# Altium integrated library FPGA Generic.IntLib: 1651 symbols (part 18 of 20)
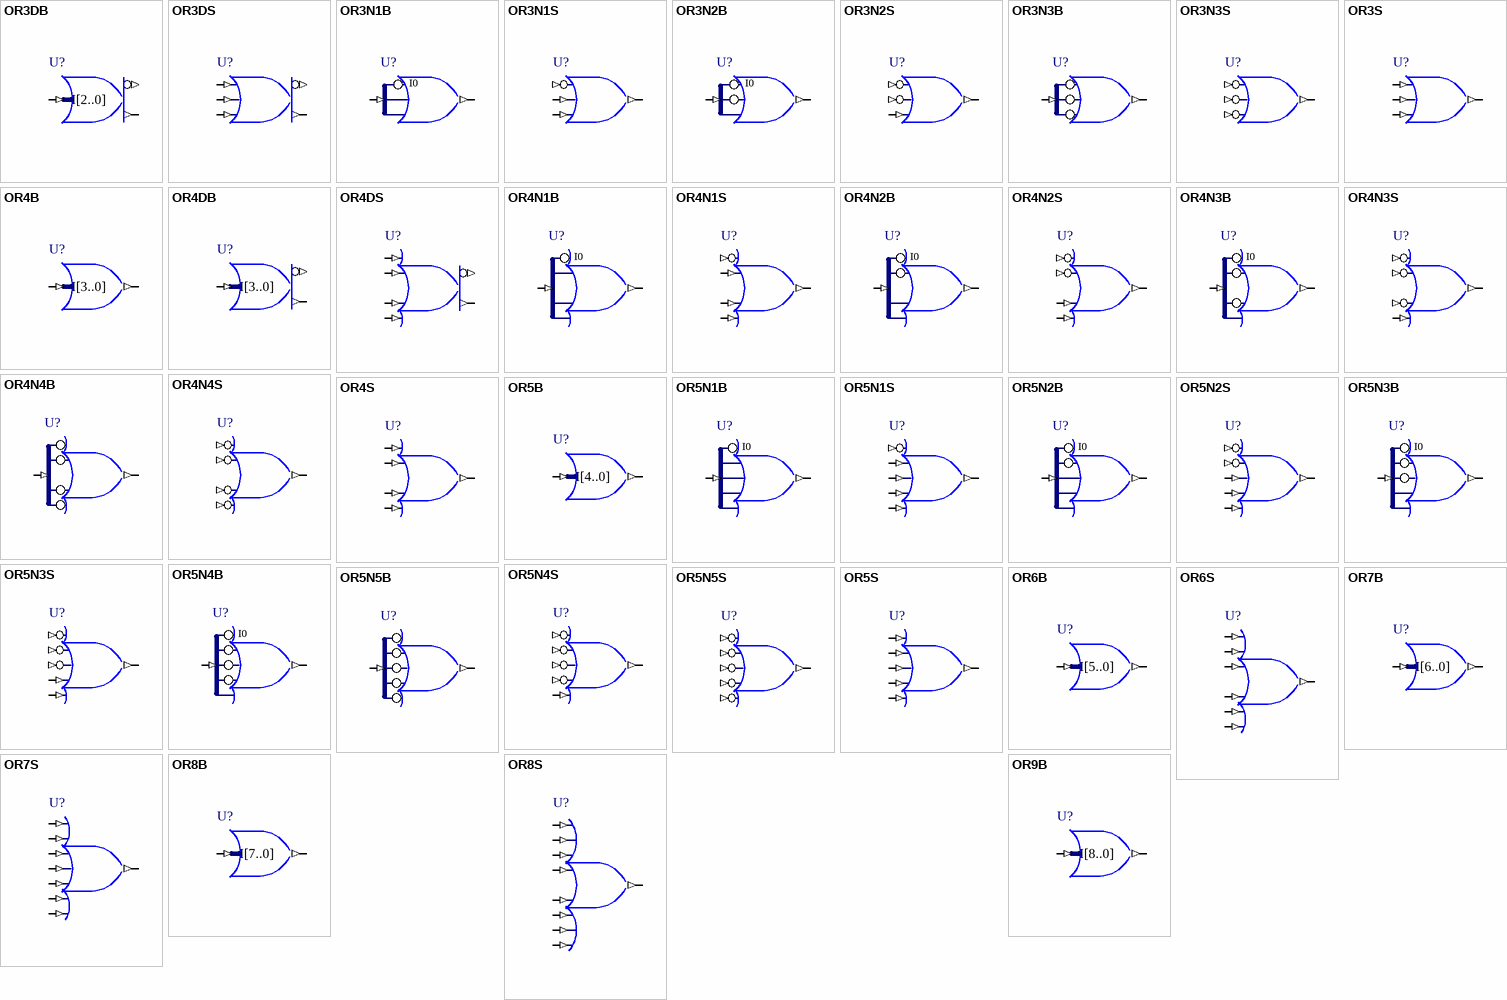
[diagram p60: symbols OR3DB to OR9B]

## OR3S
designator U?
3-Input OR Gate, Single Pin Version; XilinxEquivalent: OR3; FunctionalClass: Logic Primitive; PortSize: 3; ArchiveName: GENERIC; VHDLIB_SIM: GENERIC_LIB; Published: 29-Jan-2004; Publisher: Altium Limited; LastRevisionNo: 1.00.00; HelpURL: CR0118 FPGA Generic Library Guide.pdf#page=410; ComponentLink1URL: CR0136 FPGA Logic Primitive Resource Usage.pdf#page=200; ComponentLink1Description: Core &Resource Usage; SubClass: OR; PortStyle: Single Pin Version
pins: I0 (in), I1 (in), I2 (in), O (out)

## OR4B
designator U?
4-Input OR Gate, Bus Version; FunctionalClass: Logic Primitive; PortSize: 4; ArchiveName: GENERIC; VHDLIB_SIM: GENERIC_LIB; Published: 29-Jan-2004; Publisher: Altium Limited; LastRevisionNo: 1.00.00; HelpURL: CR0118 FPGA Generic Library Guide.pdf#page=410; ComponentLink1URL: CR0136 FPGA Logic Primitive Resource Usage.pdf#page=201; ComponentLink1Description: Core &Resource Usage; SubClass: OR; PortStyle: Bus Version
pins: I[3..0] (in), O (out)

## OR4DB
designator U?
4-Input OR/NOR Gate, Bus Version; FunctionalClass: Logic Primitive; SubClass: OR; PortSize: 4; ArchiveName: GENERIC; VHDLIB_SIM: GENERIC_LIB; Published: 29-Jan-2004; Publisher: Altium Limited; LastRevisionNo: 1.00.00; HelpURL: CR0118 FPGA Generic Library Guide.pdf#page=410; ComponentLink1URL: CR0136 FPGA Logic Primitive Resource Usage.pdf#page=202; ComponentLink1Description: Core &Resource Usage; PortStyle: Bus Version
pins: I[3..0] (in), Y (out), YN (out)

## OR4DS
designator U?
4-Input OR/NOR Gate, Single Pin Version; FunctionalClass: Logic Primitive; SubClass: OR; PortSize: 4; ArchiveName: GENERIC; VHDLIB_SIM: GENERIC_LIB; Published: 29-Jan-2004; Publisher: Altium Limited; LastRevisionNo: 1.00.00; HelpURL: CR0118 FPGA Generic Library Guide.pdf#page=410; ComponentLink1URL: CR0136 FPGA Logic Primitive Resource Usage.pdf#page=203; ComponentLink1Description: Core &Resource Usage; PortStyle: Single Pin Version
pins: I0 (in), I1 (in), I2 (in), I3 (in), Y (out), YN (out)

## OR4N1B
designator U?
4-Input OR Gate with Active Low A Input, Bus Version; FunctionalClass: Logic Primitive; PortSize: 4; ArchiveName: GENERIC; VHDLIB_SIM: GENERIC_LIB; Published: 29-Jan-2004; Publisher: Altium Limited; LastRevisionNo: 1.00.00; HelpURL: CR0118 FPGA Generic Library Guide.pdf#page=410; ComponentLink1URL: CR0136 FPGA Logic Primitive Resource Usage.pdf#page=204; ComponentLink1Description: Core &Resource Usage; SubClass: OR; PortStyle: Bus Version
pins: I[3..0] (in), O (out)
text: I0

## OR4N1S
designator U?
4-Input OR Gate with Active Low A Input, Single Pin Version; XilinxEquivalent: OR4B1; FunctionalClass: Logic Primitive; PortSize: 4; ArchiveName: GENERIC; VHDLIB_SIM: GENERIC_LIB; Published: 29-Jan-2004; Publisher: Altium Limited; LastRevisionNo: 1.00.00; HelpURL: CR0118 FPGA Generic Library Guide.pdf#page=410; ComponentLink1URL: CR0136 FPGA Logic Primitive Resource Usage.pdf#page=205; ComponentLink1Description: Core &Resource Usage; SubClass: OR; PortStyle: Single Pin Version
pins: I0 (in), I1 (in), I2 (in), I3 (in), O (out)

## OR4N2B
designator U?
4-Input OR Gate with Active Low A and B Inputs, Bus Version; FunctionalClass: Logic Primitive; PortSize: 4; ArchiveName: GENERIC; VHDLIB_SIM: GENERIC_LIB; Published: 29-Jan-2004; Publisher: Altium Limited; LastRevisionNo: 1.00.00; HelpURL: CR0118 FPGA Generic Library Guide.pdf#page=410; ComponentLink1URL: CR0136 FPGA Logic Primitive Resource Usage.pdf#page=206; ComponentLink1Description: Core &Resource Usage; SubClass: OR; PortStyle: Bus Version
pins: I[3..0] (in), O (out)
text: I0

## OR4N2S
designator U?
4-Input OR Gate with Active Low A and B Inputs, Single Pin Version; XilinxEquivalent: OR4B2; FunctionalClass: Logic Primitive; PortSize: 4; ArchiveName: GENERIC; VHDLIB_SIM: GENERIC_LIB; Published: 29-Jan-2004; Publisher: Altium Limited; LastRevisionNo: 1.00.00; HelpURL: CR0118 FPGA Generic Library Guide.pdf#page=410; ComponentLink1URL: CR0136 FPGA Logic Primitive Resource Usage.pdf#page=207; ComponentLink1Description: Core &Resource Usage; SubClass: OR; PortStyle: Single Pin Version
pins: I0 (in), I1 (in), I2 (in), I3 (in), O (out)

## OR4N3B
designator U?
4-Input OR Gate with Active Low A, B and C Inputs, Bus Version; FunctionalClass: Logic Primitive; PortSize: 4; ArchiveName: GENERIC; VHDLIB_SIM: GENERIC_LIB; Published: 29-Jan-2004; Publisher: Altium Limited; LastRevisionNo: 1.00.00; HelpURL: CR0118 FPGA Generic Library Guide.pdf#page=410; ComponentLink1URL: CR0136 FPGA Logic Primitive Resource Usage.pdf#page=208; ComponentLink1Description: Core &Resource Usage; SubClass: OR; PortStyle: Bus Version
pins: I[3..0] (in), O (out)
text: I0

## OR4N3S
designator U?
4-Input OR Gate with Active Low A, B and C Inputs, Single Pin Version; XilinxEquivalent: OR4B3; FunctionalClass: Logic Primitive; PortSize: 4; ArchiveName: GENERIC; VHDLIB_SIM: GENERIC_LIB; Published: 29-Jan-2004; Publisher: Altium Limited; LastRevisionNo: 1.00.00; HelpURL: CR0118 FPGA Generic Library Guide.pdf#page=410; ComponentLink1URL: CR0136 FPGA Logic Primitive Resource Usage.pdf#page=209; ComponentLink1Description: Core &Resource Usage; SubClass: OR; PortStyle: Single Pin Version
pins: I0 (in), I1 (in), I2 (in), I3 (in), O (out)

## OR4N4B
designator U?
4-Input OR Gate with Active Low A, B, C and D Inputs, Bus Version; FunctionalClass: Logic Primitive; PortSize: 4; ArchiveName: GENERIC; VHDLIB_SIM: GENERIC_LIB; Published: 29-Jan-2004; Publisher: Altium Limited; LastRevisionNo: 1.00.00; HelpURL: CR0118 FPGA Generic Library Guide.pdf#page=410; ComponentLink1URL: CR0136 FPGA Logic Primitive Resource Usage.pdf#page=210; ComponentLink1Description: Core &Resource Usage; SubClass: OR; PortStyle: Bus Version
pins: I[3..0] (in), O (out)

## OR4N4S
designator U?
4-Input OR Gate with Active Low A, B, C and D Inputs, Single Pin Version; XilinxEquivalent: OR4B4; FunctionalClass: Logic Primitive; PortSize: 4; ArchiveName: GENERIC; VHDLIB_SIM: GENERIC_LIB; Published: 29-Jan-2004; Publisher: Altium Limited; LastRevisionNo: 1.00.00; HelpURL: CR0118 FPGA Generic Library Guide.pdf#page=410; ComponentLink1URL: CR0136 FPGA Logic Primitive Resource Usage.pdf#page=211; ComponentLink1Description: Core &Resource Usage; SubClass: OR; PortStyle: Single Pin Version
pins: I0 (in), I1 (in), I2 (in), I3 (in), O (out)

## OR4S
designator U?
4-Input OR Gate, Single Pin Version; XilinxEquivalent: OR4; FunctionalClass: Logic Primitive; PortSize: 4; ArchiveName: GENERIC; VHDLIB_SIM: GENERIC_LIB; Published: 29-Jan-2004; Publisher: Altium Limited; LastRevisionNo: 1.00.00; HelpURL: CR0118 FPGA Generic Library Guide.pdf#page=410; ComponentLink1URL: CR0136 FPGA Logic Primitive Resource Usage.pdf#page=212; ComponentLink1Description: Core &Resource Usage; SubClass: OR; PortStyle: Single Pin Version
pins: I0 (in), I1 (in), I2 (in), I3 (in), O (out)

## OR5B
designator U?
5-Input OR Gate, Bus Version; FunctionalClass: Logic Primitive; PortSize: 5; ArchiveName: GENERIC; VHDLIB_SIM: GENERIC_LIB; Published: 29-Jan-2004; Publisher: Altium Limited; LastRevisionNo: 1.00.00; HelpURL: CR0118 FPGA Generic Library Guide.pdf#page=410; ComponentLink1URL: CR0136 FPGA Logic Primitive Resource Usage.pdf#page=213; ComponentLink1Description: Core &Resource Usage; SubClass: OR; PortStyle: Bus Version
pins: I[4..0] (in), O (out)

## OR5N1B
designator U?
5-Input OR Gate with Active Low A Input, Bus Version; FunctionalClass: Logic Primitive; PortSize: 5; ArchiveName: GENERIC; VHDLIB_SIM: GENERIC_LIB; Published: 29-Jan-2004; Publisher: Altium Limited; LastRevisionNo: 1.00.00; HelpURL: CR0118 FPGA Generic Library Guide.pdf#page=410; ComponentLink1URL: CR0136 FPGA Logic Primitive Resource Usage.pdf#page=214; ComponentLink1Description: Core &Resource Usage; SubClass: OR; PortStyle: Bus Version
pins: I[4..0] (in), O (out)
text: I0

## OR5N1S
designator U?
5-Input OR Gate with Active Low A Input, Single Pin Version; XilinxEquivalent: OR5B1; FunctionalClass: Logic Primitive; PortSize: 5; ArchiveName: GENERIC; VHDLIB_SIM: GENERIC_LIB; Published: 29-Jan-2004; Publisher: Altium Limited; LastRevisionNo: 1.00.00; HelpURL: CR0118 FPGA Generic Library Guide.pdf#page=410; ComponentLink1URL: CR0136 FPGA Logic Primitive Resource Usage.pdf#page=215; ComponentLink1Description: Core &Resource Usage; SubClass: OR; PortStyle: Single Pin Version
pins: I0 (in), I1 (in), I2 (in), I3 (in), I4 (in), O (out)

## OR5N2B
designator U?
5-Input OR Gate with Active Low A and B Inputs, Bus Version; FunctionalClass: Logic Primitive; PortSize: 5; ArchiveName: GENERIC; VHDLIB_SIM: GENERIC_LIB; Published: 29-Jan-2004; Publisher: Altium Limited; LastRevisionNo: 1.00.00; HelpURL: CR0118 FPGA Generic Library Guide.pdf#page=410; ComponentLink1URL: CR0136 FPGA Logic Primitive Resource Usage.pdf#page=216; ComponentLink1Description: Core &Resource Usage; SubClass: OR; PortStyle: Bus Version
pins: I[4..0] (in), O (out)
text: I0

## OR5N2S
designator U?
5-Input OR Gate with Active Low A and B Inputs, Single Pin Version; XilinxEquivalent: OR5B2; FunctionalClass: Logic Primitive; PortSize: 5; ArchiveName: GENERIC; VHDLIB_SIM: GENERIC_LIB; Published: 29-Jan-2004; Publisher: Altium Limited; LastRevisionNo: 1.00.00; HelpURL: CR0118 FPGA Generic Library Guide.pdf#page=410; ComponentLink1URL: CR0136 FPGA Logic Primitive Resource Usage.pdf#page=217; ComponentLink1Description: Core &Resource Usage; SubClass: OR; PortStyle: Single Pin Version
pins: I0 (in), I1 (in), I2 (in), I3 (in), I4 (in), O (out)

## OR5N3B
designator U?
5-Input OR Gate with Active Low A, B and C Inputs, Bus Version; FunctionalClass: Logic Primitive; PortSize: 5; ArchiveName: GENERIC; VHDLIB_SIM: GENERIC_LIB; Published: 29-Jan-2004; Publisher: Altium Limited; LastRevisionNo: 1.00.00; HelpURL: CR0118 FPGA Generic Library Guide.pdf#page=410; ComponentLink1URL: CR0136 FPGA Logic Primitive Resource Usage.pdf#page=218; ComponentLink1Description: Core &Resource Usage; SubClass: OR; PortStyle: Bus Version
pins: I[4..0] (in), O (out)
text: I0

## OR5N3S
designator U?
5-Input OR Gate with Active Low A, B and C Inputs, Single Pin Version; XilinxEquivalent: OR5B3; FunctionalClass: Logic Primitive; PortSize: 5; ArchiveName: GENERIC; VHDLIB_SIM: GENERIC_LIB; Published: 29-Jan-2004; Publisher: Altium Limited; LastRevisionNo: 1.00.00; HelpURL: CR0118 FPGA Generic Library Guide.pdf#page=410; ComponentLink1URL: CR0136 FPGA Logic Primitive Resource Usage.pdf#page=219; ComponentLink1Description: Core &Resource Usage; SubClass: OR; PortStyle: Single Pin Version
pins: I0 (in), I1 (in), I2 (in), I3 (in), I4 (in), O (out)

## OR5N4B
designator U?
5-Input OR Gate with Active Low A, B, C and D Inputs, Bus Version; FunctionalClass: Logic Primitive; PortSize: 5; ArchiveName: GENERIC; VHDLIB_SIM: GENERIC_LIB; Published: 29-Jan-2004; Publisher: Altium Limited; LastRevisionNo: 1.00.00; HelpURL: CR0118 FPGA Generic Library Guide.pdf#page=410; ComponentLink1URL: CR0136 FPGA Logic Primitive Resource Usage.pdf#page=220; ComponentLink1Description: Core &Resource Usage; SubClass: OR; PortStyle: Bus Version
pins: I[4..0] (in), O (out)
text: I0

## OR5N4S
designator U?
5-Input OR Gate with Active Low A, B, C and D Inputs, Single Pin Version; XilinxEquivalent: OR5B4; FunctionalClass: Logic Primitive; PortSize: 5; ArchiveName: GENERIC; VHDLIB_SIM: GENERIC_LIB; Published: 29-Jan-2004; Publisher: Altium Limited; LastRevisionNo: 1.00.00; HelpURL: CR0118 FPGA Generic Library Guide.pdf#page=410; ComponentLink1URL: CR0136 FPGA Logic Primitive Resource Usage.pdf#page=221; ComponentLink1Description: Core &Resource Usage; SubClass: OR; PortStyle: Single Pin Version
pins: I0 (in), I1 (in), I2 (in), I3 (in), I4 (in), O (out)

## OR5N5B
designator U?
5-Input OR Gate with Active Low A, B, C, D and E Inputs, Bus Version; FunctionalClass: Logic Primitive; PortSize: 5; ArchiveName: GENERIC; VHDLIB_SIM: GENERIC_LIB; Published: 29-Jan-2004; Publisher: Altium Limited; LastRevisionNo: 1.00.00; HelpURL: CR0118 FPGA Generic Library Guide.pdf#page=410; ComponentLink1URL: CR0136 FPGA Logic Primitive Resource Usage.pdf#page=222; ComponentLink1Description: Core &Resource Usage; SubClass: OR; PortStyle: Bus Version
pins: I[4..0] (in), O (out)

## OR5N5S
designator U?
5-Input OR Gate with Active Low A, B, C, D and E Inputs, Single Pin Version; XilinxEquivalent: OR5B5; FunctionalClass: Logic Primitive; PortSize: 5; ArchiveName: GENERIC; VHDLIB_SIM: GENERIC_LIB; Published: 29-Jan-2004; Publisher: Altium Limited; LastRevisionNo: 1.00.00; HelpURL: CR0118 FPGA Generic Library Guide.pdf#page=410; ComponentLink1URL: CR0136 FPGA Logic Primitive Resource Usage.pdf#page=223; ComponentLink1Description: Core &Resource Usage; SubClass: OR; PortStyle: Single Pin Version
pins: I0 (in), I1 (in), I2 (in), I3 (in), I4 (in), O (out)

## OR5S
designator U?
5-Input OR Gate, Single Pin Version; XilinxEquivalent: OR5; FunctionalClass: Logic Primitive; PortSize: 5; ArchiveName: GENERIC; VHDLIB_SIM: GENERIC_LIB; Published: 29-Jan-2004; Publisher: Altium Limited; LastRevisionNo: 1.00.00; HelpURL: CR0118 FPGA Generic Library Guide.pdf#page=410; ComponentLink1URL: CR0136 FPGA Logic Primitive Resource Usage.pdf#page=224; ComponentLink1Description: Core &Resource Usage; SubClass: OR; PortStyle: Single Pin Version
pins: I0 (in), I1 (in), I2 (in), I3 (in), I4 (in), O (out)

## OR6B
designator U?
6-Input OR Gate, Bus Version; FunctionalClass: Logic Primitive; PortSize: 6; ArchiveName: GENERIC; VHDLIB_SIM: GENERIC_LIB; Published: 29-Jan-2004; Publisher: Altium Limited; LastRevisionNo: 1.00.00; HelpURL: CR0118 FPGA Generic Library Guide.pdf#page=410; ComponentLink1URL: CR0136 FPGA Logic Primitive Resource Usage.pdf#page=225; ComponentLink1Description: Core &Resource Usage; SubClass: OR; PortStyle: Bus Version
pins: I[5..0] (in), O (out)

## OR6S
designator U?
6-Input OR Gate, Single Pin Version; XilinxEquivalent: OR6; FunctionalClass: Logic Primitive; PortSize: 6; ArchiveName: GENERIC; VHDLIB_SIM: GENERIC_LIB; Published: 29-Jan-2004; Publisher: Altium Limited; LastRevisionNo: 1.00.00; HelpURL: CR0118 FPGA Generic Library Guide.pdf#page=410; ComponentLink1URL: CR0136 FPGA Logic Primitive Resource Usage.pdf#page=226; ComponentLink1Description: Core &Resource Usage; SubClass: OR; PortStyle: Single Pin Version
pins: I0 (in), I1 (in), I2 (in), I3 (in), I4 (in), I5 (in), O (out)

## OR7B
designator U?
7-Input OR Gate, Bus Version; FunctionalClass: Logic Primitive; PortSize: 7; ArchiveName: GENERIC; VHDLIB_SIM: GENERIC_LIB; Published: 29-Jan-2004; Publisher: Altium Limited; LastRevisionNo: 1.00.00; HelpURL: CR0118 FPGA Generic Library Guide.pdf#page=410; ComponentLink1URL: CR0136 FPGA Logic Primitive Resource Usage.pdf#page=227; ComponentLink1Description: Core &Resource Usage; SubClass: OR; PortStyle: Bus Version
pins: I[6..0] (in), O (out)

## OR7S
designator U?
7-Input OR Gate, Single Pin Version; XilinxEquivalent: OR7; FunctionalClass: Logic Primitive; PortSize: 7; ArchiveName: GENERIC; VHDLIB_SIM: GENERIC_LIB; Published: 29-Jan-2004; Publisher: Altium Limited; LastRevisionNo: 1.00.00; HelpURL: CR0118 FPGA Generic Library Guide.pdf#page=410; ComponentLink1URL: CR0136 FPGA Logic Primitive Resource Usage.pdf#page=228; ComponentLink1Description: Core &Resource Usage; SubClass: OR; PortStyle: Single Pin Version
pins: I0 (in), I1 (in), I2 (in), I3 (in), I4 (in), I5 (in), I6 (in), O (out)

## OR8B
designator U?
8-Input OR Gate, Bus Version; FunctionalClass: Logic Primitive; PortSize: 8; ArchiveName: GENERIC; VHDLIB_SIM: GENERIC_LIB; Published: 29-Jan-2004; Publisher: Altium Limited; LastRevisionNo: 1.00.00; HelpURL: CR0118 FPGA Generic Library Guide.pdf#page=410; ComponentLink1URL: CR0136 FPGA Logic Primitive Resource Usage.pdf#page=229; ComponentLink1Description: Core &Resource Usage; SubClass: OR; PortStyle: Bus Version
pins: I[7..0] (in), O (out)

## OR8S
designator U?
8-Input OR Gate, Single Pin Version; XilinxEquivalent: OR8; FunctionalClass: Logic Primitive; PortSize: 8; ArchiveName: GENERIC; VHDLIB_SIM: GENERIC_LIB; Published: 29-Jan-2004; Publisher: Altium Limited; LastRevisionNo: 1.00.00; HelpURL: CR0118 FPGA Generic Library Guide.pdf#page=410; ComponentLink1URL: CR0136 FPGA Logic Primitive Resource Usage.pdf#page=230; ComponentLink1Description: Core &Resource Usage; SubClass: OR; PortStyle: Single Pin Version
pins: I0 (in), I1 (in), I2 (in), I3 (in), I4 (in), I5 (in), I6 (in), I7 (in), O (out)

## OR9B
designator U?
9-Input OR Gate, Bus Version; FunctionalClass: Logic Primitive; PortSize: 9; ArchiveName: GENERIC; VHDLIB_SIM: GENERIC_LIB; Published: 29-Jan-2004; Publisher: Altium Limited; LastRevisionNo: 1.00.00; HelpURL: CR0118 FPGA Generic Library Guide.pdf#page=410; ComponentLink1URL: CR0136 FPGA Logic Primitive Resource Usage.pdf#page=231; ComponentLink1Description: Core &Resource Usage; SubClass: OR; PortStyle: Bus Version
pins: I[8..0] (in), O (out)

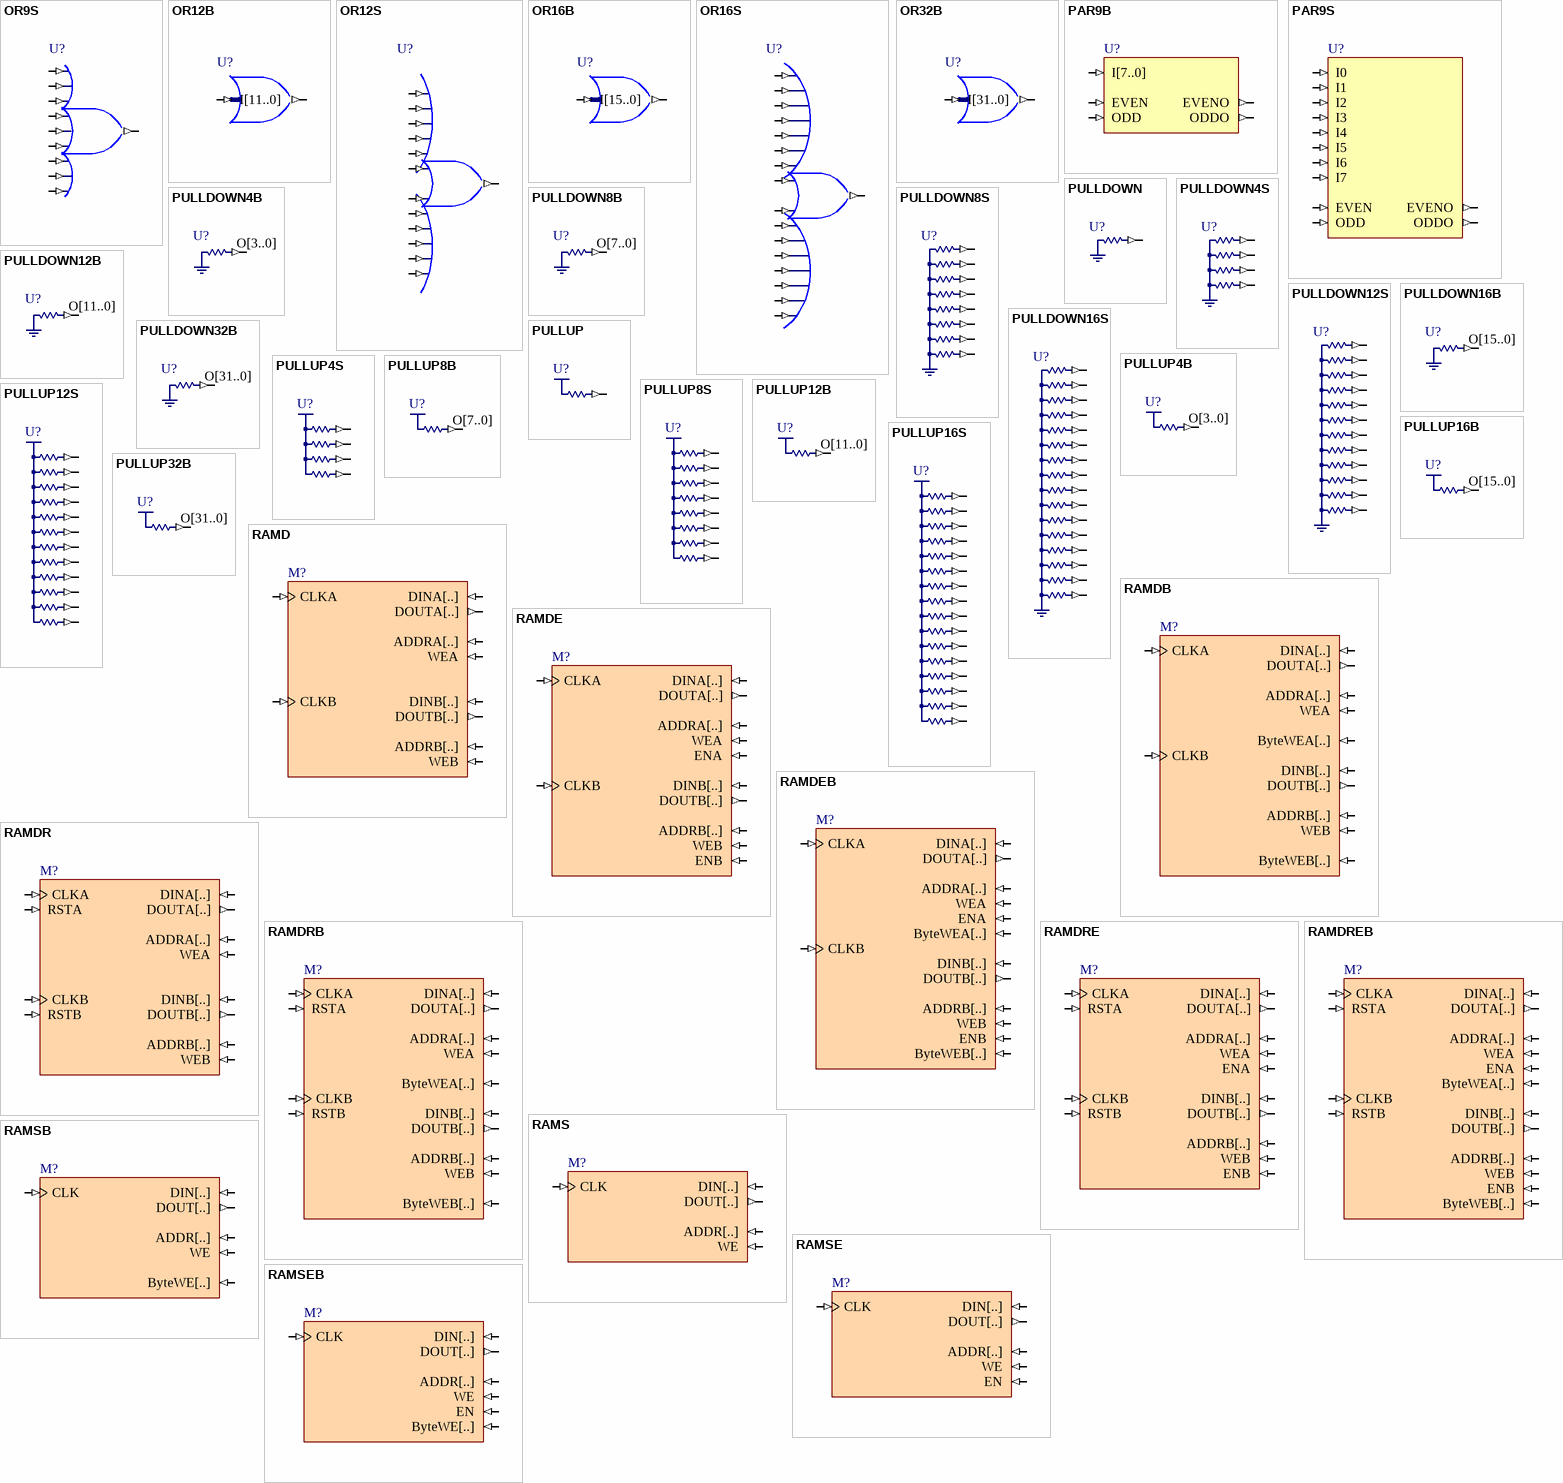
[diagram p38: symbols OR9S to RAMSEB]

## OR9S
designator U?
9-Input OR Gate, Single Pin Version; XilinxEquivalent: OR9; FunctionalClass: Logic Primitive; PortSize: 9; ArchiveName: GENERIC; VHDLIB_SIM: GENERIC_LIB; Published: 29-Jan-2004; Publisher: Altium Limited; LastRevisionNo: 1.00.00; HelpURL: CR0118 FPGA Generic Library Guide.pdf#page=410; ComponentLink1URL: CR0136 FPGA Logic Primitive Resource Usage.pdf#page=232; ComponentLink1Description: Core &Resource Usage; SubClass: OR; PortStyle: Single Pin Version
pins: I0 (in), I1 (in), I2 (in), I3 (in), I4 (in), I5 (in), I6 (in), I7 (in), I8 (in), O (out)

## OR12B
designator U?
12-Input OR Gate, Bus Version; FunctionalClass: Logic Primitive; PortSize: 12; ArchiveName: GENERIC; VHDLIB_SIM: GENERIC_LIB; Published: 29-Jan-2004; Publisher: Altium Limited; LastRevisionNo: 1.00.00; HelpURL: CR0118 FPGA Generic Library Guide.pdf#page=410; ComponentLink1URL: CR0136 FPGA Logic Primitive Resource Usage.pdf#page=233; ComponentLink1Description: Core &Resource Usage; SubClass: OR; PortStyle: Bus Version
pins: I[11..0] (in), O (out)

## OR12S
designator U?
12-Input OR Gate, Single Pin Version; XilinxEquivalent: OR12; FunctionalClass: Logic Primitive; PortSize: 12; ArchiveName: GENERIC; VHDLIB_SIM: GENERIC_LIB; Published: 29-Jan-2004; Publisher: Altium Limited; LastRevisionNo: 1.00.00; HelpURL: CR0118 FPGA Generic Library Guide.pdf#page=410; ComponentLink1URL: CR0136 FPGA Logic Primitive Resource Usage.pdf#page=234; ComponentLink1Description: Core &Resource Usage; SubClass: OR; PortStyle: Single Pin Version
pins: I0 (in), I1 (in), I2 (in), I3 (in), I4 (in), I5 (in), I6 (in), I7 (in), I8 (in), I9 (in), I10 (in), I11 (in), O (out)

## OR16B
designator U?
16-Input OR Gate, Bus Version; FunctionalClass: Logic Primitive; PortSize: 16; ArchiveName: GENERIC; VHDLIB_SIM: GENERIC_LIB; Published: 29-Jan-2004; Publisher: Altium Limited; LastRevisionNo: 1.00.00; HelpURL: CR0118 FPGA Generic Library Guide.pdf#page=410; ComponentLink1URL: CR0136 FPGA Logic Primitive Resource Usage.pdf#page=235; ComponentLink1Description: Core &Resource Usage; SubClass: OR; PortStyle: Bus Version
pins: I[15..0] (in), O (out)

## OR16S
designator U?
16-Input OR Gate, Single Pin Version; XilinxEquivalent: OR16; FunctionalClass: Logic Primitive; PortSize: 16; ArchiveName: GENERIC; VHDLIB_SIM: GENERIC_LIB; Published: 29-Jan-2004; Publisher: Altium Limited; LastRevisionNo: 1.00.00; HelpURL: CR0118 FPGA Generic Library Guide.pdf#page=410; ComponentLink1URL: CR0136 FPGA Logic Primitive Resource Usage.pdf#page=236; ComponentLink1Description: Core &Resource Usage; SubClass: OR; PortStyle: Single Pin Version
pins: I0 (in), I1 (in), I2 (in), I3 (in), I4 (in), I5 (in), I6 (in), I7 (in), I8 (in), I9 (in), I10 (in), I11 (in), I12 (in), I13 (in), I14 (in), I15 (in), O (out)

## OR32B
designator U?
32-Input OR Gate, Bus Version; FunctionalClass: Logic Primitive; PortSize: 32; ArchiveName: GENERIC; VHDLIB_SIM: GENERIC_LIB; Published: 29-Jan-2004; Publisher: Altium Limited; LastRevisionNo: 1.00.00; HelpURL: CR0118 FPGA Generic Library Guide.pdf#page=410; ComponentLink1URL: CR0136 FPGA Logic Primitive Resource Usage.pdf#page=237; ComponentLink1Description: Core &Resource Usage; SubClass: OR; PortStyle: Bus Version
pins: I[31..0] (in), O (out)

## PAR9B
designator U?
9-Bit Odd/Even Parity Generators/Checker, Bus Version; FunctionalClass: Arithmetic Function; SubClass: PAR; PortSize: 9; ArchiveName: GENERIC; VHDLIB_SIM: GENERIC_LIB; Published: 29-Jan-2004; Publisher: Altium Limited; LastRevisionNo: 1.00.00; HelpURL: CR0118 FPGA Generic Library Guide.pdf#page=413; ComponentLink1URL: CR0124 FPGA Arithmetic Function Resource Usage.pdf#page=89; ComponentLink1Description: Core &Resource Usage; PortStyle: Bus Version
pins: EVEN (in), EVENO (out), I[7..0] (in), ODD (in), ODDO (out)

## PAR9S
designator U?
9-Bit Odd/Even Parity Generators/Checker, Single Pin Version; FunctionalClass: Arithmetic Function; SubClass: PAR; PortSize: 9; ArchiveName: GENERIC; VHDLIB_SIM: GENERIC_LIB; Published: 29-Jan-2004; Publisher: Altium Limited; LastRevisionNo: 1.00.00; HelpURL: CR0118 FPGA Generic Library Guide.pdf#page=413; ComponentLink1URL: CR0124 FPGA Arithmetic Function Resource Usage.pdf#page=90; ComponentLink1Description: Core &Resource Usage; PortStyle: Single Pin Version
pins: EVEN (in), EVENO (out), I0 (in), I1 (in), I2 (in), I3 (in), I4 (in), I5 (in), I6 (in), I7 (in), ODD (in), ODDO (out)

## PULLDOWN
designator U?
Level Low; XilinxEquivalent: PULLDOWN; FunctionalClass: Wired Function; ArchiveName: GENERIC; VHDLIB_SIM: GENERIC_LIB; Published: 29-Jan-2004; Publisher: Altium Limited; LastRevisionNo: 1.00.00; HelpURL: CR0118 FPGA Generic Library Guide.pdf#page=414; ComponentLink1URL: CR0143 FPGA Wired Function Resource Usage.pdf#page=2; ComponentLink1Description: Core &Resource Usage; SubClass: Pulldown
pins: O (out)

## PULLDOWN4B
designator U?
4-Bit Level Low Bus; FunctionalClass: Wired Function; SubClass: Pulldown; PortSize: 4; PortStyle: Bus Version; ArchiveName: GENERIC; VHDLIB_SIM: GENERIC_LIB; Published: 29-Jan-2004; Publisher: Altium Limited; LastRevisionNo: 1.00.00; HelpURL: CR0118 FPGA Generic Library Guide.pdf#page=414; ComponentLink1URL: CR0143 FPGA Wired Function Resource Usage.pdf#page=3; ComponentLink1Description: Core &Resource Usage
pins: O[3..0] (out)

## PULLDOWN4S
designator U?
4-Bit Level Low; FunctionalClass: Wired Function; SubClass: Pulldown; PortSize: 4; PortStyle: Single Pin Version; ArchiveName: GENERIC; VHDLIB_SIM: GENERIC_LIB; Published: 29-Jan-2004; Publisher: Altium Limited; LastRevisionNo: 1.00.00; HelpURL: CR0118 FPGA Generic Library Guide.pdf#page=414; ComponentLink1URL: CR0143 FPGA Wired Function Resource Usage.pdf#page=4; ComponentLink1Description: Core &Resource Usage
pins: O0 (out), O1 (out), O2 (out), O3 (out)

## PULLDOWN8B
designator U?
8-Bit Level Low Bus; FunctionalClass: Wired Function; SubClass: Pulldown; PortSize: 8; PortStyle: Bus Version; ArchiveName: GENERIC; VHDLIB_SIM: GENERIC_LIB; Published: 29-Jan-2004; Publisher: Altium Limited; LastRevisionNo: 1.00.00; HelpURL: CR0118 FPGA Generic Library Guide.pdf#page=414; ComponentLink1URL: CR0143 FPGA Wired Function Resource Usage.pdf#page=5; ComponentLink1Description: Core &Resource Usage
pins: O[7..0] (out)

## PULLDOWN8S
designator U?
8-Bit Level Low; FunctionalClass: Wired Function; SubClass: Pulldown; PortSize: 8; PortStyle: Single Pin Version; ArchiveName: GENERIC; VHDLIB_SIM: GENERIC_LIB; Published: 29-Jan-2004; Publisher: Altium Limited; LastRevisionNo: 1.00.00; HelpURL: CR0118 FPGA Generic Library Guide.pdf#page=414; ComponentLink1URL: CR0143 FPGA Wired Function Resource Usage.pdf#page=6; ComponentLink1Description: Core &Resource Usage
pins: O0 (out), O1 (out), O2 (out), O3 (out), O4 (out), O5 (out), O6 (out), O7 (out)

## PULLDOWN12B
designator U?
12-Bit Level Low Bus; FunctionalClass: Wired Function; SubClass: Pulldown; PortSize: 12; PortStyle: Bus Version; ArchiveName: GENERIC; VHDLIB_SIM: GENERIC_LIB; Published: 29-Jan-2004; Publisher: Altium Limited; LastRevisionNo: 1.00.00; HelpURL: CR0118 FPGA Generic Library Guide.pdf#page=414; ComponentLink1URL: CR0143 FPGA Wired Function Resource Usage.pdf#page=7; ComponentLink1Description: Core &Resource Usage
pins: O[11..0] (out)

## PULLDOWN12S
designator U?
12-Bit Level Low; FunctionalClass: Wired Function; SubClass: Pulldown; PortSize: 12; PortStyle: Single Pin Version; ArchiveName: GENERIC; VHDLIB_SIM: GENERIC_LIB; Published: 29-Jan-2004; Publisher: Altium Limited; LastRevisionNo: 1.00.00; HelpURL: CR0118 FPGA Generic Library Guide.pdf#page=414; ComponentLink1URL: CR0143 FPGA Wired Function Resource Usage.pdf#page=8; ComponentLink1Description: Core &Resource Usage
pins: O0 (out), O1 (out), O2 (out), O3 (out), O4 (out), O5 (out), O6 (out), O7 (out), O8 (out), O9 (out), O10 (out), O11 (out)

## PULLDOWN16B
designator U?
16-Bit Level Low Bus; FunctionalClass: Wired Function; SubClass: Pulldown; PortSize: 16; PortStyle: Bus Version; ArchiveName: GENERIC; VHDLIB_SIM: GENERIC_LIB; Published: 29-Jan-2004; Publisher: Altium Limited; LastRevisionNo: 1.00.00; HelpURL: CR0118 FPGA Generic Library Guide.pdf#page=414; ComponentLink1URL: CR0143 FPGA Wired Function Resource Usage.pdf#page=9; ComponentLink1Description: Core &Resource Usage
pins: O[15..0] (out)

## PULLDOWN16S
designator U?
16-Bit Level Low; FunctionalClass: Wired Function; SubClass: Pulldown; PortSize: 16; PortStyle: Single Pin Version; ArchiveName: GENERIC; VHDLIB_SIM: GENERIC_LIB; Published: 29-Jan-2004; Publisher: Altium Limited; LastRevisionNo: 1.00.00; HelpURL: CR0118 FPGA Generic Library Guide.pdf#page=414; ComponentLink1URL: CR0143 FPGA Wired Function Resource Usage.pdf#page=10; ComponentLink1Description: Core &Resource Usage
pins: O0 (out), O1 (out), O2 (out), O3 (out), O4 (out), O5 (out), O6 (out), O7 (out), O8 (out), O9 (out), O10 (out), O11 (out), O12 (out), O13 (out), O14 (out), O15 (out)

## PULLDOWN32B
designator U?
32-Bit Level Low Bus; FunctionalClass: Wired Function; SubClass: Pulldown; PortSize: 32; PortStyle: Bus Version; ArchiveName: GENERIC; VHDLIB_SIM: GENERIC_LIB; Published: 29-Jan-2004; Publisher: Altium Limited; LastRevisionNo: 1.00.00; HelpURL: CR0118 FPGA Generic Library Guide.pdf#page=414; ComponentLink1URL: CR0143 FPGA Wired Function Resource Usage.pdf#page=11; ComponentLink1Description: Core &Resource Usage
pins: O[31..0] (out)

## PULLUP
designator U?
Level High; XilinxEquivalent: PULLUP; FunctionalClass: Wired Function; ArchiveName: GENERIC; VHDLIB_SIM: GENERIC_LIB; Published: 29-Jan-2004; Publisher: Altium Limited; LastRevisionNo: 1.00.00; HelpURL: CR0118 FPGA Generic Library Guide.pdf#page=415; ComponentLink1URL: CR0143 FPGA Wired Function Resource Usage.pdf#page=12; ComponentLink1Description: Core &Resource Usage; SubClass: Pullup
pins: O (out)

## PULLUP4B
designator U?
4-Bit Level High Bus; FunctionalClass: Wired Function; SubClass: Pullup; PortSize: 4; PortStyle: Bus Version; ArchiveName: GENERIC; VHDLIB_SIM: GENERIC_LIB; Published: 29-Jan-2004; Publisher: Altium Limited; LastRevisionNo: 1.00.00; HelpURL: CR0118 FPGA Generic Library Guide.pdf#page=415; ComponentLink1URL: CR0143 FPGA Wired Function Resource Usage.pdf#page=13; ComponentLink1Description: Core &Resource Usage
pins: O[3..0] (out)

## PULLUP4S
designator U?
4-Bit Level High; FunctionalClass: Wired Function; SubClass: Pullup; PortSize: 4; PortStyle: Single Pin Version; ArchiveName: GENERIC; VHDLIB_SIM: GENERIC_LIB; Published: 29-Jan-2004; Publisher: Altium Limited; LastRevisionNo: 1.00.00; HelpURL: CR0118 FPGA Generic Library Guide.pdf#page=415; ComponentLink1URL: CR0143 FPGA Wired Function Resource Usage.pdf#page=14; ComponentLink1Description: Core &Resource Usage
pins: O0 (out), O1 (out), O2 (out), O3 (out)

## PULLUP8B
designator U?
8-Bit Level High Bus; FunctionalClass: Wired Function; SubClass: Pullup; PortSize: 8; PortStyle: Bus Version; ArchiveName: GENERIC; VHDLIB_SIM: GENERIC_LIB; Published: 29-Jan-2004; Publisher: Altium Limited; LastRevisionNo: 1.00.00; HelpURL: CR0118 FPGA Generic Library Guide.pdf#page=415; ComponentLink1URL: CR0143 FPGA Wired Function Resource Usage.pdf#page=15; ComponentLink1Description: Core &Resource Usage
pins: O[7..0] (out)

## PULLUP8S
designator U?
8-Bit Level High; FunctionalClass: Wired Function; SubClass: Pullup; PortSize: 8; PortStyle: Single Pin Version; ArchiveName: GENERIC; VHDLIB_SIM: GENERIC_LIB; Published: 29-Jan-2004; Publisher: Altium Limited; LastRevisionNo: 1.00.00; HelpURL: CR0118 FPGA Generic Library Guide.pdf#page=415; ComponentLink1URL: CR0143 FPGA Wired Function Resource Usage.pdf#page=16; ComponentLink1Description: Core &Resource Usage
pins: O0 (out), O1 (out), O2 (out), O3 (out), O4 (out), O5 (out), O6 (out), O7 (out)

## PULLUP12B
designator U?
12-Bit Level High Bus; FunctionalClass: Wired Function; SubClass: Pullup; PortSize: 12; PortStyle: Bus Version; ArchiveName: GENERIC; VHDLIB_SIM: GENERIC_LIB; Published: 29-Jan-2004; Publisher: Altium Limited; LastRevisionNo: 1.00.00; HelpURL: CR0118 FPGA Generic Library Guide.pdf#page=415; ComponentLink1URL: CR0143 FPGA Wired Function Resource Usage.pdf#page=17; ComponentLink1Description: Core &Resource Usage
pins: O[11..0] (out)

## PULLUP12S
designator U?
12-Bit Level High; FunctionalClass: Wired Function; SubClass: Pullup; PortSize: 12; PortStyle: Single Pin Version; ArchiveName: GENERIC; VHDLIB_SIM: GENERIC_LIB; Published: 29-Jan-2004; Publisher: Altium Limited; LastRevisionNo: 1.00.00; HelpURL: CR0118 FPGA Generic Library Guide.pdf#page=415; ComponentLink1URL: CR0143 FPGA Wired Function Resource Usage.pdf#page=18; ComponentLink1Description: Core &Resource Usage
pins: O0 (out), O1 (out), O2 (out), O3 (out), O4 (out), O5 (out), O6 (out), O7 (out), O8 (out), O9 (out), O10 (out), O11 (out)

## PULLUP16B
designator U?
16-Bit Level High Bus; FunctionalClass: Wired Function; SubClass: Pullup; PortSize: 16; PortStyle: Bus Version; ArchiveName: GENERIC; VHDLIB_SIM: GENERIC_LIB; Published: 29-Jan-2004; Publisher: Altium Limited; LastRevisionNo: 1.00.00; HelpURL: CR0118 FPGA Generic Library Guide.pdf#page=415; ComponentLink1URL: CR0143 FPGA Wired Function Resource Usage.pdf#page=19; ComponentLink1Description: Core &Resource Usage
pins: O[15..0] (out)

## PULLUP16S
designator U?
16-Bit Level High; FunctionalClass: Wired Function; SubClass: Pullup; PortSize: 16; PortStyle: Single Pin Version; ArchiveName: GENERIC; VHDLIB_SIM: GENERIC_LIB; Published: 29-Jan-2004; Publisher: Altium Limited; LastRevisionNo: 1.00.00; HelpURL: CR0118 FPGA Generic Library Guide.pdf#page=415; ComponentLink1URL: CR0143 FPGA Wired Function Resource Usage.pdf#page=20; ComponentLink1Description: Core &Resource Usage
pins: O0 (out), O1 (out), O2 (out), O3 (out), O4 (out), O5 (out), O6 (out), O7 (out), O8 (out), O9 (out), O10 (out), O11 (out), O12 (out), O13 (out), O14 (out), O15 (out)

## PULLUP32B
designator U?
32-Bit Level High Bus; FunctionalClass: Wired Function; SubClass: Pullup; PortSize: 32; PortStyle: Bus Version; ArchiveName: GENERIC; VHDLIB_SIM: GENERIC_LIB; Published: 29-Jan-2004; Publisher: Altium Limited; LastRevisionNo: 1.00.00; HelpURL: CR0118 FPGA Generic Library Guide.pdf#page=415; ComponentLink1URL: CR0143 FPGA Wired Function Resource Usage.pdf#page=21; ComponentLink1Description: Core &Resource Usage
pins: O[31..0] (out)

## RAMD
designator M?
Dual Port Random Access Memory; Memory_DepthA: DefinedBy=ADDRA; Memory_Type: RAM_DualPortBlock; Memory_WidthA: DefinedBy=DINA; Memory_ClockEdge: Rising; Nexus_Core: Memory_Program; Memory_WidthB: DefinedBy=DINB; Memory_DepthB: DefinedBy=ADDRB; SubClass: RAM; Published: 29-Jan-2004; LatestRevisionDate: 31-May-2004; LatestRevisionNote: Pin Length Changed to 10.; Publisher: Altium Limited; LastRevisionNo: 1.00.00; HelpURL: CR0118 FPGA Generic Library Guide.pdf#page=416; FunctionalClass: Memory
pins: ADDRA[..] (in), ADDRB[..] (in), CLKA (in), CLKB (in), DINA[..] (in), DINB[..] (in), DOUTA[..] (out), DOUTB[..] (out), WEA (in), WEB (in)

## RAMDB
designator M?
Dual Port Random Access Memory, Byte Write Enable; Memory_DepthA: DefinedBy=ADDRA; Memory_Type: RAM_DualPortBlock; Memory_WidthA: DefinedBy=DINA; Memory_ClockEdge: Rising; Nexus_Core: Memory_Program; Memory_WidthB: DefinedBy=DINB; Memory_DepthB: DefinedBy=ADDRB; SubClass: RAM; Memory_ByteWrites: True; Published: 12-Jan-2005; Publisher: Altium Limited; LastRevisionNo: 1.00.00; HelpURL: CR0118 FPGA Generic Library Guide.pdf#page=417; FunctionalClass: Memory
pins: ADDRA[..] (in), ADDRB[..] (in), ByteWEA[..] (in), ByteWEB[..] (in), CLKA (in), CLKB (in), DINA[..] (in), DINB[..] (in), DOUTA[..] (out), DOUTB[..] (out), WEA (in), WEB (in)

## RAMDE
designator M?
Dual Port Random Access Memory With Enable; Memory_DepthA: DefinedBy=ADDRA; Memory_Type: RAM_DualPortBlock; Memory_WidthA: DefinedBy=DINA; Memory_ClockEdge: Rising; Nexus_Core: Memory_Program; Memory_WidthB: DefinedBy=DINB; Memory_DepthB: DefinedBy=ADDRB; Memory_EnablePin: True; SubClass: RAM; Published: 29-Jan-2004; LatestRevisionDate: 31-May-2004; LatestRevisionNote: Pin Length Changed to 10.; Publisher: Altium Limited; LastRevisionNo: 1.00.00; HelpURL: CR0118 FPGA Generic Library Guide.pdf#page=418; FunctionalClass: Memory
pins: ADDRA[..] (in), ADDRB[..] (in), CLKA (in), CLKB (in), DINA[..] (in), DINB[..] (in), DOUTA[..] (out), DOUTB[..] (out), ENA (in), ENB (in), WEA (in), WEB (in)

## RAMDEB
designator M?
Dual Port Random Access Memory With Enable, Byte Write Enable; Memory_DepthA: DefinedBy=ADDRA; Memory_Type: RAM_DualPortBlock; Memory_WidthA: DefinedBy=DINA; Memory_ClockEdge: Rising; Nexus_Core: Memory_Program; Memory_WidthB: DefinedBy=DINB; Memory_DepthB: DefinedBy=ADDRB; Memory_EnablePin: True; SubClass: RAM; Published: 12-Jan-2005; Publisher: Altium Limited; LastRevisionNo: 1.00.00; HelpURL: CR0118 FPGA Generic Library Guide.pdf#page=419; FunctionalClass: Memory; Memory_ByteWrites: True
pins: ADDRA[..] (in), ADDRB[..] (in), ByteWEA[..] (in), ByteWEB[..] (in), CLKA (in), CLKB (in), DINA[..] (in), DINB[..] (in), DOUTA[..] (out), DOUTB[..] (out), ENA (in), ENB (in), WEA (in), WEB (in)

## RAMDR
designator M?
Dual Port Random Access Memory with Reset; Memory_DepthA: DefinedBy=ADDRA; Memory_Type: RAM_DualPortBlock; Memory_WidthA: DefinedBy=DINA; Memory_ClockEdge: Rising; Nexus_Core: Memory_Program; Memory_WidthB: DefinedBy=DINB; Memory_DepthB: DefinedBy=ADDRB; Memory_ResetPin: True; SubClass: RAM; Published: 31-May-2004; Publisher: Altium Limited; LastRevisionNo: 1.00.00; HelpURL: CR0118 FPGA Generic Library Guide.pdf#page=420; FunctionalClass: Memory
pins: ADDRA[..] (in), ADDRB[..] (in), CLKA (in), CLKB (in), DINA[..] (in), DINB[..] (in), DOUTA[..] (out), DOUTB[..] (out), RSTA (in), RSTB (in), WEA (in), WEB (in)

## RAMDRB
designator M?
Dual Port Random Access Memory with Reset, Byte Write Enable; Memory_DepthA: DefinedBy=ADDRA; Memory_Type: RAM_DualPortBlock; Memory_WidthA: DefinedBy=DINA; Memory_ClockEdge: Rising; Nexus_Core: Memory_Program; Memory_WidthB: DefinedBy=DINB; Memory_DepthB: DefinedBy=ADDRB; Memory_ResetPin: True; SubClass: RAM; Published: 12-Jan-2005; Publisher: Altium Limited; LastRevisionNo: 1.00.00; HelpURL: CR0118 FPGA Generic Library Guide.pdf#page=421; FunctionalClass: Memory; Memory_ByteWrites: True
pins: ADDRA[..] (in), ADDRB[..] (in), ByteWEA[..] (in), ByteWEB[..] (in), CLKA (in), CLKB (in), DINA[..] (in), DINB[..] (in), DOUTA[..] (out), DOUTB[..] (out), RSTA (in), RSTB (in), WEA (in), WEB (in)

## RAMDRE
designator M?
Dual Port Random Access Memory With Enable and Reset; Memory_DepthA: DefinedBy=ADDRA; Memory_Type: RAM_DualPortBlock; Memory_WidthA: DefinedBy=DINA; Memory_ClockEdge: Rising; Nexus_Core: Memory_Program; Memory_WidthB: DefinedBy=DINB; Memory_DepthB: DefinedBy=ADDRB; Memory_EnablePin: True; SubClass: RAM; Published: 31-May-2004; Publisher: Altium Limited; LastRevisionNo: 1.00.00; Memory_ResetPin: True; HelpURL: CR0118 FPGA Generic Library Guide.pdf#page=422; FunctionalClass: Memory
pins: ADDRA[..] (in), ADDRB[..] (in), CLKA (in), CLKB (in), DINA[..] (in), DINB[..] (in), DOUTA[..] (out), DOUTB[..] (out), ENA (in), ENB (in), RSTA (in), RSTB (in), WEA (in), WEB (in)

## RAMDREB
designator M?
Dual Port Random Access Memory With Enable and Reset, Byte Write Enable; Memory_DepthA: DefinedBy=ADDRA; Memory_Type: RAM_DualPortBlock; Memory_WidthA: DefinedBy=DINA; Memory_ClockEdge: Rising; Nexus_Core: Memory_Program; Memory_WidthB: DefinedBy=DINB; Memory_DepthB: DefinedBy=ADDRB; Memory_EnablePin: True; SubClass: RAM; Published: 12-Jan-2005; Publisher: Altium Limited; LastRevisionNo: 1.00.00; Memory_ResetPin: True; HelpURL: CR0118 FPGA Generic Library Guide.pdf#page=423; FunctionalClass: Memory; Memory_ByteWrites: True
pins: ADDRA[..] (in), ADDRB[..] (in), ByteWEA[..] (in), ByteWEB[..] (in), CLKA (in), CLKB (in), DINA[..] (in), DINB[..] (in), DOUTA[..] (out), DOUTB[..] (out), ENA (in), ENB (in), RSTA (in), RSTB (in), WEA (in), WEB (in)

## RAMS
designator M?
Single Port Random Access Memory; Memory_Depth: DefinedBy=ADDR; Memory_Type: RAM_SinglePortBlock; Memory_Width: DefinedBy=DIN; Memory_ClockEdge: Rising; Nexus_Core: Memory_Program; SubClass: RAM; Published: 29-Jan-2004; LatestRevisionDate: 31-May-2004; LatestRevisionNote: Pin Length Changed to 10.; Publisher: Altium Limited; LastRevisionNo: 1.00.00; HelpURL: CR0118 FPGA Generic Library Guide.pdf#page=416; FunctionalClass: Memory
pins: ADDR[..] (in), CLK (in), DIN[..] (in), DOUT[..] (out), WE (in)

## RAMSB
designator M?
Single Port Random Access Memory, Byte Write Enable; Memory_Depth: DefinedBy=ADDR; Memory_Type: RAM_SinglePortBlock; Memory_Width: DefinedBy=DIN; Memory_ClockEdge: Rising; Nexus_Core: Memory_Program; SubClass: RAM; Memory_ByteWrites: True; Published: 12-Jan-2005; Publisher: Altium Limited; LastRevisionNo: 1.00.00; HelpURL: CR0118 FPGA Generic Library Guide.pdf#page=417; FunctionalClass: Memory
pins: ADDR[..] (in), ByteWE[..] (in), CLK (in), DIN[..] (in), DOUT[..] (out), WE (in)

## RAMSE
designator M?
Single Port Random Access Memory With Enable; Memory_Depth: DefinedBy=ADDR; Memory_Type: RAM_SinglePortBlock; Memory_Width: DefinedBy=DIN; Memory_ClockEdge: Rising; Nexus_Core: Memory_Program; Memory_EnablePin: True; SubClass: RAM; Published: 29-Jan-2004; LatestRevisionDate: 31-May-2004; LatestRevisionNote: Pin Length Changed to 10.; Publisher: Altium Limited; LastRevisionNo: 1.00.00; HelpURL: CR0118 FPGA Generic Library Guide.pdf#page=418; FunctionalClass: Memory
pins: ADDR[..] (in), CLK (in), DIN[..] (in), DOUT[..] (out), EN (in), WE (in)

## RAMSEB
designator M?
Single Port Random Access Memory With Enable, Byte Write Enable; Memory_Depth: DefinedBy=ADDR; Memory_Type: RAM_SinglePortBlock; Memory_Width: DefinedBy=DIN; Memory_ClockEdge: Rising; Nexus_Core: Memory_Program; Memory_EnablePin: True; SubClass: RAM; Published: 12-Jan-2005; Publisher: Altium Limited; LastRevisionNo: 1.00.00; HelpURL: CR0118 FPGA Generic Library Guide.pdf#page=419; FunctionalClass: Memory; Memory_ByteWrites: True
pins: ADDR[..] (in), ByteWE[..] (in), CLK (in), DIN[..] (in), DOUT[..] (out), EN (in), WE (in)

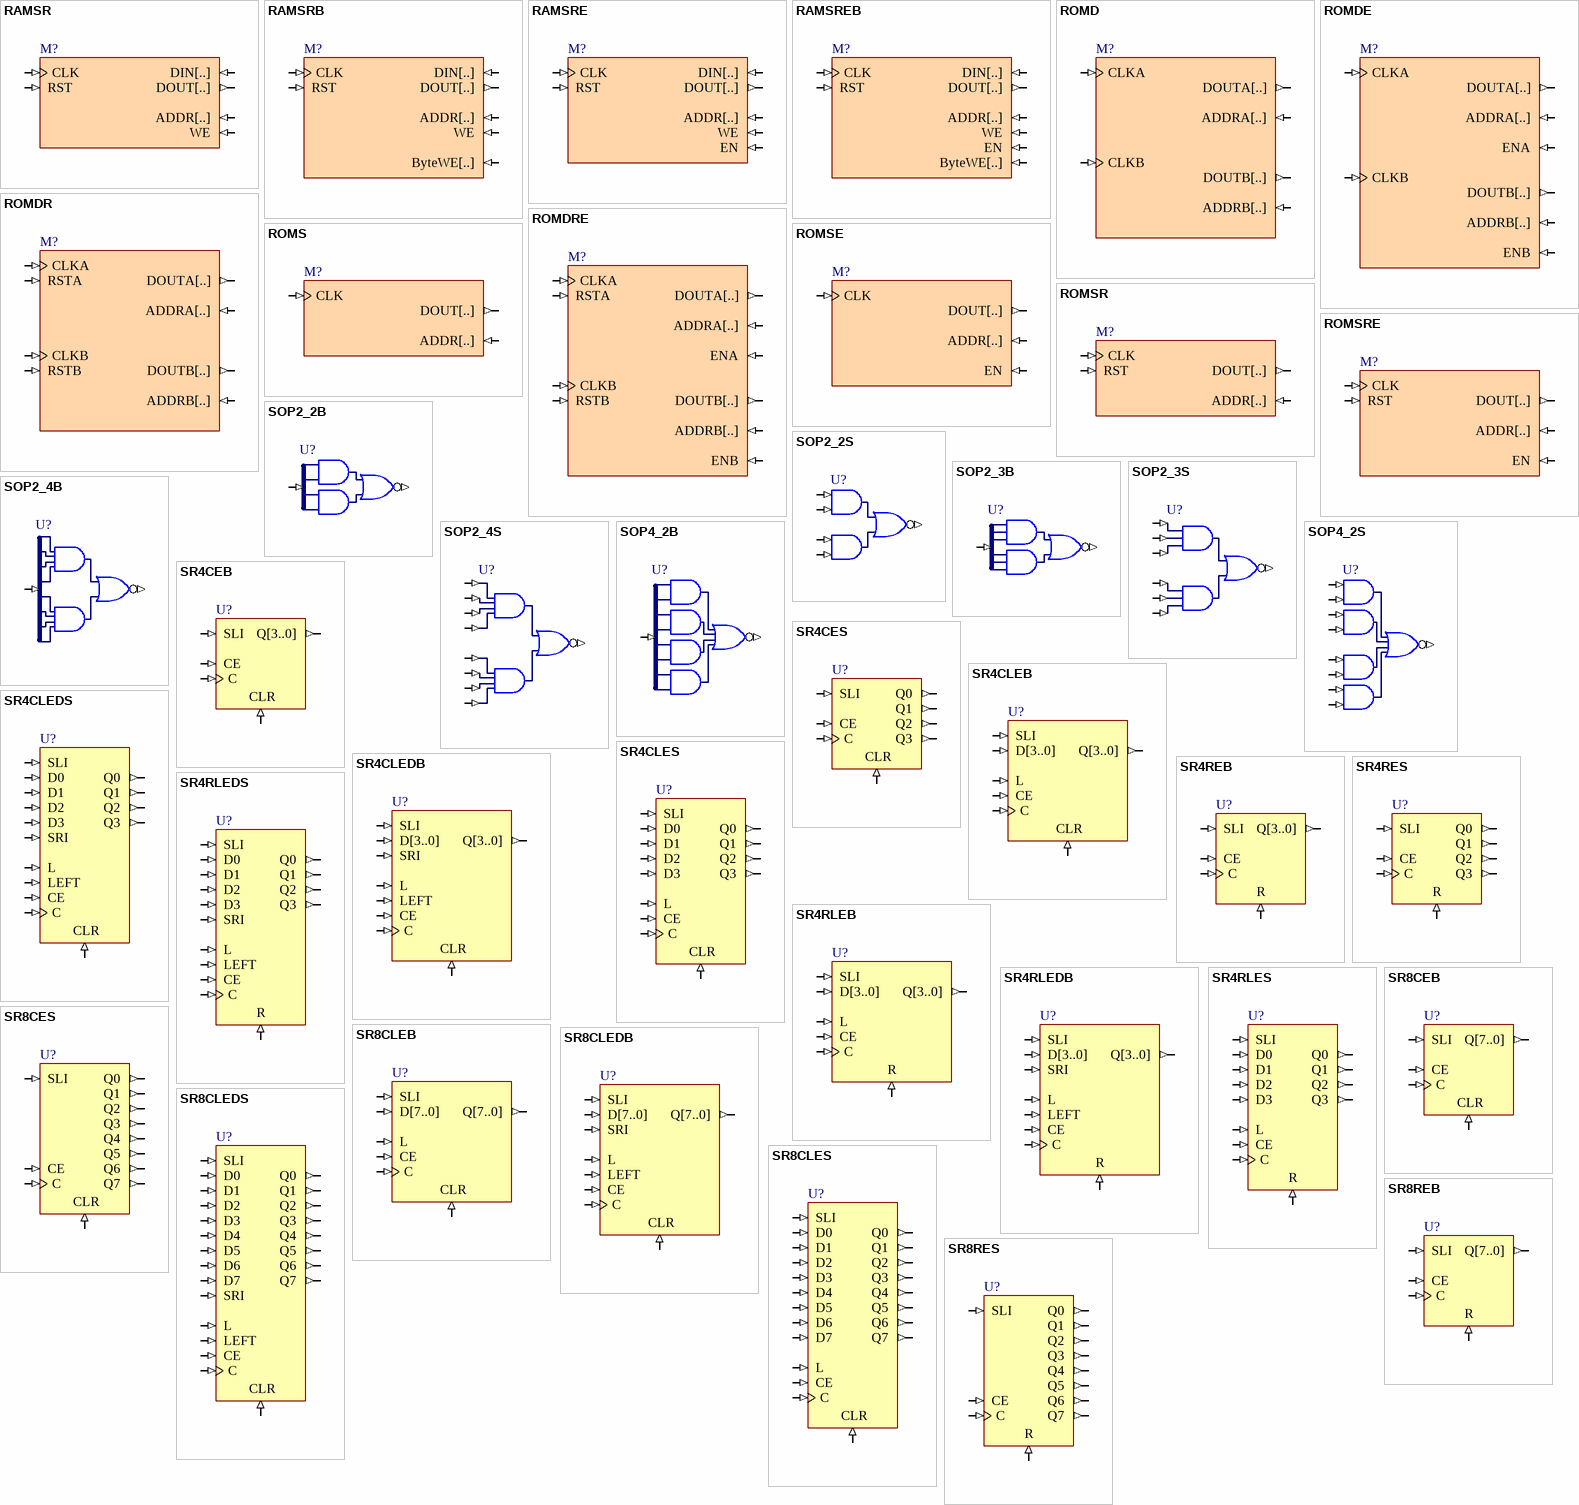
[diagram p39: symbols RAMSR to SR8RES]

## RAMSR
designator M?
Single Port Random Access Memory with Reset; Memory_Depth: DefinedBy=ADDR; Memory_Type: RAM_SinglePortBlock; Memory_Width: DefinedBy=DIN; Memory_ClockEdge: Rising; Nexus_Core: Memory_Program; Memory_ResetPin: True; SubClass: RAM; Published: 31-May-2004; Publisher: Altium Limited; LastRevisionNo: 1.00.00; HelpURL: CR0118 FPGA Generic Library Guide.pdf#page=420; FunctionalClass: Memory
pins: ADDR[..] (in), CLK (in), DIN[..] (in), DOUT[..] (out), RST (in), WE (in)

## RAMSRB
designator M?
Single Port Random Access Memory with Reset, Byte Write Enable; Memory_Depth: DefinedBy=ADDR; Memory_Type: RAM_SinglePortBlock; Memory_Width: DefinedBy=DIN; Memory_ClockEdge: Rising; Nexus_Core: Memory_Program; Memory_ResetPin: True; SubClass: RAM; Published: 12-Jan-2005; Publisher: Altium Limited; LastRevisionNo: 1.00.00; HelpURL: CR0118 FPGA Generic Library Guide.pdf#page=421; FunctionalClass: Memory; Memory_ByteWrites: True
pins: ADDR[..] (in), ByteWE[..] (in), CLK (in), DIN[..] (in), DOUT[..] (out), RST (in), WE (in)

## RAMSRE
designator M?
Single Port Random Access Memory With Enable and Reset; Memory_Depth: DefinedBy=ADDR; Memory_Type: RAM_SinglePortBlock; Memory_Width: DefinedBy=DIN; Memory_ClockEdge: Rising; Nexus_Core: Memory_Program; Memory_EnablePin: True; SubClass: RAM; Published: 31-May-2004; Publisher: Altium Limited; LastRevisionNo: 1.00.00; Memory_ResetPin: True; HelpURL: CR0118 FPGA Generic Library Guide.pdf#page=422; FunctionalClass: Memory
pins: ADDR[..] (in), CLK (in), DIN[..] (in), DOUT[..] (out), EN (in), RST (in), WE (in)

## RAMSREB
designator M?
Single Port Random Access Memory With Enable and Reset, Byte Write Enable; Memory_Depth: DefinedBy=ADDR; Memory_Type: RAM_SinglePortBlock; Memory_Width: DefinedBy=DIN; Memory_ClockEdge: Rising; Nexus_Core: Memory_Program; Memory_EnablePin: True; SubClass: RAM; Published: 12-Jan-2005; Publisher: Altium Limited; LastRevisionNo: 1.00.00; Memory_ResetPin: True; HelpURL: CR0118 FPGA Generic Library Guide.pdf#page=423; FunctionalClass: Memory; Memory_ByteWrites: True
pins: ADDR[..] (in), ByteWE[..] (in), CLK (in), DIN[..] (in), DOUT[..] (out), EN (in), RST (in), WE (in)

## ROMD
designator M?
Dual Port Read Only Memory; Memory_DepthA: DefinedBy=ADDRA; Memory_Type: ROM_DualPortBlock; Memory_WidthA: DefinedBy=DOUTA; Memory_ClockEdge: Rising; Nexus_Core: Memory_Program; Memory_WidthB: DefinedBy=DOUTB; Memory_DepthB: DefinedBy=ADDRB; SubClass: ROM; Published: 29-Jan-2004; LatestRevisionDate: 31-May-2004; LatestRevisionNote: Pin Length Changed to 10.; Publisher: Altium Limited; LastRevisionNo: 1.00.00; HelpURL: CR0118 FPGA Generic Library Guide.pdf#page=425; FunctionalClass: Memory
pins: ADDRA[..] (in), ADDRB[..] (in), CLKA (in), CLKB (in), DOUTA[..] (out), DOUTB[..] (out)

## ROMDE
designator M?
Dual Port Read Only Memory With Enable; Memory_DepthA: DefinedBy=ADDRA; Memory_Type: ROM_DualPortBlock; Memory_WidthA: DefinedBy=DOUTA; Memory_ClockEdge: Rising; Nexus_Core: Memory_Program; Memory_WidthB: DefinedBy=DOUTB; Memory_DepthB: DefinedBy=ADDRB; Memory_EnablePin: True; SubClass: ROM; Published: 29-Jan-2004; LatestRevisionDate: 31-May-2004; LatestRevisionNote: Pin Length Changed to 10.; Publisher: Altium Limited; LastRevisionNo: 1.00.00; HelpURL: CR0118 FPGA Generic Library Guide.pdf#page=426; FunctionalClass: Memory
pins: ADDRA[..] (in), ADDRB[..] (in), CLKA (in), CLKB (in), DOUTA[..] (out), DOUTB[..] (out), ENA (in), ENB (in)

## ROMDR
designator M?
Dual Port Read Only Memory with Reset; Memory_DepthA: DefinedBy=ADDRA; Memory_Type: ROM_DualPortBlock; Memory_WidthA: DefinedBy=DOUTA; Memory_ClockEdge: Rising; Nexus_Core: Memory_Program; Memory_WidthB: DefinedBy=DOUTB; Memory_DepthB: DefinedBy=ADDRB; Memory_ResetPin: True; SubClass: ROM; Published: 31-May-2004; Publisher: Altium Limited; LastRevisionNo: 1.00.00; HelpURL: CR0118 FPGA Generic Library Guide.pdf#page=427; FunctionalClass: Memory
pins: ADDRA[..] (in), ADDRB[..] (in), CLKA (in), CLKB (in), DOUTA[..] (out), DOUTB[..] (out), RSTA (in), RSTB (in)

## ROMDRE
designator M?
Dual Port Read Only Memory With Enable and Reset; Memory_DepthA: DefinedBy=ADDRA; Memory_Type: ROM_DualPortBlock; Memory_WidthA: DefinedBy=DOUTA; Memory_ClockEdge: Rising; Nexus_Core: Memory_Program; Memory_WidthB: DefinedBy=DOUTB; Memory_DepthB: DefinedBy=ADDRB; Memory_EnablePin: True; SubClass: ROM; Published: 31-May-2004; Publisher: Altium Limited; LastRevisionNo: 1.00.00; Memory_ResetPin: True; HelpURL: CR0118 FPGA Generic Library Guide.pdf#page=428; FunctionalClass: Memory
pins: ADDRA[..] (in), ADDRB[..] (in), CLKA (in), CLKB (in), DOUTA[..] (out), DOUTB[..] (out), ENA (in), ENB (in), RSTA (in), RSTB (in)

## ROMS
designator M?
Single Port Read Only Memory; Memory_Depth: DefinedBy=ADDR; Memory_Type: ROM_SinglePortBlock; Memory_Width: DefinedBy=DOUT; Memory_ClockEdge: Rising; Nexus_Core: Memory_Program; SubClass: ROM; Published: 29-Jan-2004; LatestRevisionDate: 31-May-2004; LatestRevisionNote: Pin Length Changed to 10.; Publisher: Altium Limited; LastRevisionNo: 1.00.00; HelpURL: CR0118 FPGA Generic Library Guide.pdf#page=425; FunctionalClass: Memory
pins: ADDR[..] (in), CLK (in), DOUT[..] (out)

## ROMSE
designator M?
Single Port Read Only Memory With Enable; Memory_Depth: DefinedBy=ADDR; Memory_Type: ROM_SinglePortBlock; Memory_Width: DefinedBy=DOUT; Memory_ClockEdge: Rising; Nexus_Core: Memory_Program; Memory_EnablePin: True; SubClass: ROM; Published: 29-Jan-2004; LatestRevisionDate: 31-May-2004; LatestRevisionNote: Pin Length Changed to 10.; Publisher: Altium Limited; LastRevisionNo: 1.00.00; HelpURL: CR0118 FPGA Generic Library Guide.pdf#page=426; FunctionalClass: Memory
pins: ADDR[..] (in), CLK (in), DOUT[..] (out), EN (in)

## ROMSR
designator M?
Single Port Read Only Memory with Reset; Memory_Depth: DefinedBy=ADDR; Memory_Type: ROM_SinglePortBlock; Memory_Width: DefinedBy=DOUT; Memory_ClockEdge: Rising; Nexus_Core: Memory_Program; Memory_ResetPin: True; SubClass: ROM; Published: 31-May-2004; Publisher: Altium Limited; LastRevisionNo: 1.00.00; HelpURL: CR0118 FPGA Generic Library Guide.pdf#page=427; FunctionalClass: Memory
pins: ADDR[..] (in), CLK (in), DOUT[..] (out), RST (in)

## ROMSRE
designator M?
Single Port Read Only Memory With Enable and Reset; Memory_Depth: DefinedBy=ADDR; Memory_Type: ROM_SinglePortBlock; Memory_Width: DefinedBy=DOUT; Memory_ClockEdge: Rising; Nexus_Core: Memory_Program; Memory_EnablePin: True; SubClass: ROM; Published: 31-May-2004; Publisher: Altium Limited; LastRevisionNo: 1.00.00; Memory_ResetPin: True; HelpURL: CR0118 FPGA Generic Library Guide.pdf#page=428; FunctionalClass: Memory
pins: ADDR[..] (in), CLK (in), DOUT[..] (out), EN (in), RST (in)

## SOP2_2B
designator U?
Sum of Product, two 2-inputs AND-OR-INVERT Gates Combination, Bus Version; FunctionalClass: Logic Primitive; SubClass: SOP; PortSize: 2; ArchiveName: GENERIC; VHDLIB_SIM: GENERIC_LIB; Published: 29-Jan-2004; Publisher: Altium Limited; LastRevisionNo: 1.00.00; HelpURL: CR0118 FPGA Generic Library Guide.pdf#page=429; ComponentLink1URL: CR0136 FPGA Logic Primitive Resource Usage.pdf#page=238; ComponentLink1Description: Core &Resource Usage; PortStyle: Bus Version
pins: I[3..0] (in), Y (out)

## SOP2_2S
designator U?
Sum of Product, two 2-inputs AND-OR-INVERT Gates Combination, Single Pin Version; FunctionalClass: Logic Primitive; SubClass: SOP; PortSize: 2; ArchiveName: GENERIC; VHDLIB_SIM: GENERIC_LIB; Published: 29-Jan-2004; Publisher: Altium Limited; LastRevisionNo: 1.00.00; HelpURL: CR0118 FPGA Generic Library Guide.pdf#page=429; ComponentLink1URL: CR0136 FPGA Logic Primitive Resource Usage.pdf#page=239; ComponentLink1Description: Core &Resource Usage; PortStyle: Single Pin Version
pins: I0 (in), I1 (in), I2 (in), I3 (in), Y (out)

## SOP2_3B
designator U?
Sum of Product, two 3-inputs AND-OR-INVERT Gates Combination, Bus Version; FunctionalClass: Logic Primitive; SubClass: SOP; PortSize: 2; ArchiveName: GENERIC; VHDLIB_SIM: GENERIC_LIB; Published: 29-Jan-2004; Publisher: Altium Limited; LastRevisionNo: 1.00.00; HelpURL: CR0118 FPGA Generic Library Guide.pdf#page=429; ComponentLink1URL: CR0136 FPGA Logic Primitive Resource Usage.pdf#page=240; ComponentLink1Description: Core &Resource Usage; PortStyle: Bus Version
pins: I[5..0] (in), Y (out)

## SOP2_3S
designator U?
Sum of Product, two 3-inputs AND-OR-INVERT Gates Combination, Single Pin Version; FunctionalClass: Logic Primitive; SubClass: SOP; PortSize: 2; ArchiveName: GENERIC; VHDLIB_SIM: GENERIC_LIB; Published: 29-Jan-2004; Publisher: Altium Limited; LastRevisionNo: 1.00.00; HelpURL: CR0118 FPGA Generic Library Guide.pdf#page=429; ComponentLink1URL: CR0136 FPGA Logic Primitive Resource Usage.pdf#page=241; ComponentLink1Description: Core &Resource Usage; PortStyle: Single Pin Version
pins: I0 (in), I1 (in), I2 (in), I3 (in), I4 (in), I5 (in), Y (out)

## SOP2_4B
designator U?
Sum of Product, two 4-Inputs AND-OR-INVERT Gates Combination, Bus Version; FunctionalClass: Logic Primitive; SubClass: SOP; PortSize: 2; ArchiveName: GENERIC; VHDLIB_SIM: GENERIC_LIB; Published: 29-Jan-2004; Publisher: Altium Limited; LastRevisionNo: 1.00.00; HelpURL: CR0118 FPGA Generic Library Guide.pdf#page=429; ComponentLink1URL: CR0136 FPGA Logic Primitive Resource Usage.pdf#page=242; ComponentLink1Description: Core &Resource Usage; PortStyle: Bus Version
pins: I[7..0] (in), Y (out)

## SOP2_4S
designator U?
Sum of Product, two 4-Inputs AND-OR-INVERT Gates Combination, Single Pin Version; FunctionalClass: Logic Primitive; SubClass: SOP; PortSize: 2; ArchiveName: GENERIC; VHDLIB_SIM: GENERIC_LIB; Published: 29-Jan-2004; Publisher: Altium Limited; LastRevisionNo: 1.00.00; HelpURL: CR0118 FPGA Generic Library Guide.pdf#page=429; ComponentLink1URL: CR0136 FPGA Logic Primitive Resource Usage.pdf#page=243; ComponentLink1Description: Core &Resource Usage; PortStyle: Single Pin Version
pins: I0 (in), I1 (in), I2 (in), I3 (in), I4 (in), I5 (in), I6 (in), I7 (in), Y (out)

## SOP4_2B
designator U?
Sum of Product, four 2-inputs AND-OR-INVERT Gates Combination, Bus Version; FunctionalClass: Logic Primitive; SubClass: SOP; PortSize: 4; ArchiveName: GENERIC; VHDLIB_SIM: GENERIC_LIB; Published: 29-Jan-2004; Publisher: Altium Limited; LastRevisionNo: 1.00.00; HelpURL: CR0118 FPGA Generic Library Guide.pdf#page=429; ComponentLink1URL: CR0136 FPGA Logic Primitive Resource Usage.pdf#page=244; ComponentLink1Description: Core &Resource Usage; PortStyle: Bus Version
pins: I[7..0] (in), Y (out)

## SOP4_2S
designator U?
Sum of Product, four 2-inputs AND-OR-INVERT Gates Combination, Single Pin Version; FunctionalClass: Logic Primitive; SubClass: SOP; PortSize: 4; ArchiveName: GENERIC; VHDLIB_SIM: GENERIC_LIB; Published: 29-Jan-2004; Publisher: Altium Limited; LastRevisionNo: 1.00.00; HelpURL: CR0118 FPGA Generic Library Guide.pdf#page=429; ComponentLink1URL: CR0136 FPGA Logic Primitive Resource Usage.pdf#page=245; ComponentLink1Description: Core &Resource Usage; PortStyle: Single Pin Version
pins: I0 (in), I1 (in), I2 (in), I3 (in), I4 (in), I5 (in), I6 (in), I7 (in), Y (out)